# Altium footprint library Driver motor.PcbLib: 4 footprints
Each footprint in its own frame and in the unit in brackets; x right, y up, seen from the top. Pads: shape width x height; smd on the part's side, far side on the other; paste and mask are expansions set on the pad; w line width, h text height; cw(c..) or ccw(c..) is an arc to the next point about the centre after c.
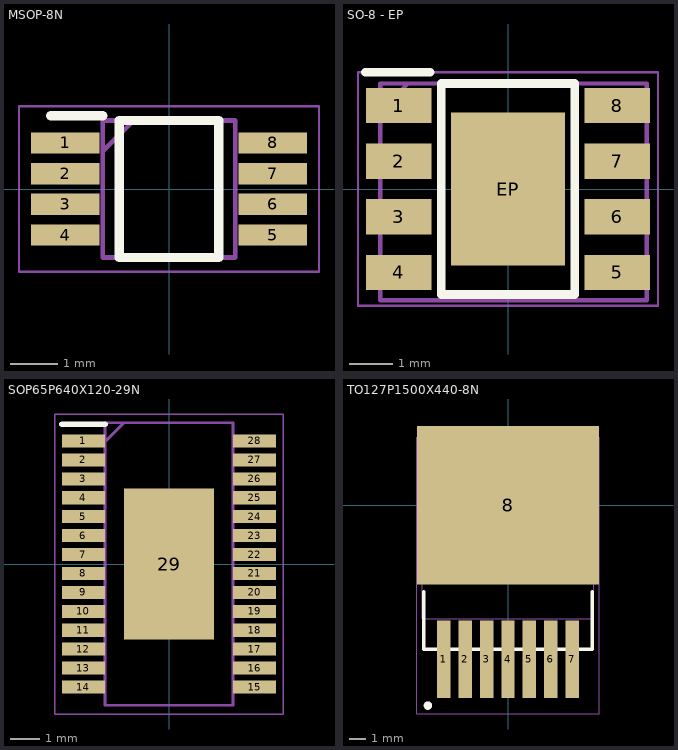
[diagram p0: the footprints below, top view; thin cyan lines are the x and y axes]

## MSOP-8N [mm] "4.90x3.00x1.10"
pads (8):
  rect 1.45x0.45 smd: 1(-2.2,0.975) 2(-2.2,0.325) 3(-2.2,-0.325) 4(-2.2,-0.975) 5(2.2,-0.975) 6(2.2,-0.325) 7(2.2,0.325) 8(2.2,0.975)
Top Overlay:
  lines w0.2: -2.5,1.55 -1.4,1.55 ; -1.05,-1.45 1.05,-1.45 1.05,1.45 -1.05,1.45 -1.05,-1.45
Mechanical 13:
  lines w0.1: -1.4,0.8 -0.75,1.45 ; -1.4,-1.45 1.4,-1.45 1.4,1.45 -1.4,1.45 -1.4,-1.45
Mechanical 15:
  lines w0.05: -3.175,-1.75 3.175,-1.75 3.175,1.75 -3.175,1.75 -3.175,-1.75
3D body "MSOP-8.STEP": height 1.15, standoff 0, extent -2.45,-1.476 2.45,1.524

## SO-8 - EP [mm] "6.00x4.90x1.45"
pads (9):
  rect 1.505x0.802 smd: 1(-2.498,1.905) 2(-2.498,0.635) 3(-2.498,-0.635) 4(-2.498,-1.905) 5(2.498,-1.905) 6(2.498,-0.635) 7(2.498,0.635) 8(2.498,1.905)
  rect 2.613x3.502 smd: EP(0,0)
Top Overlay:
  lines w0.2: -3.259,2.667 -1.778,2.667 ; -1.524,-2.413 1.524,-2.413 1.524,2.413 -1.524,2.413 -1.524,-2.413
Mechanical 13:
  lines w0.1: -2.921,1.778 -2.286,2.413 ; -2.921,-2.54 3.175,-2.54 3.175,2.413 -2.921,2.413 -2.921,-2.54
Mechanical 15:
  lines w0.05: -3.429,-2.667 -3.429,2.667 3.429,2.667 3.429,-2.667 -3.429,-2.667
3D body "SO-8.STEP": height 1.6, standoff 0, extent -2.868,-2.45 3.122,2.45

## SOP65P640X120-29N [mm]
pads (29):
  rect 1.475x0.45 smd: 1(-2.938,4.225) 2(-2.938,3.575) 3(-2.938,2.925) 4(-2.938,2.275) 5(-2.938,1.625) 6(-2.938,0.975) 7(-2.938,0.325) 8(-2.938,-0.325) 9(-2.938,-0.975) 10(-2.938,-1.625) 11(-2.938,-2.275) 12(-2.938,-2.925) 13(-2.938,-3.575) 14(-2.938,-4.225) 15(2.938,-4.225) 16(2.938,-3.575) 17(2.938,-2.925) 18(2.938,-2.275) 19(2.938,-1.625) 20(2.938,-0.975) 21(2.938,-0.325) 22(2.938,0.325) 23(2.938,0.975) 24(2.938,1.625) 25(2.938,2.275) 26(2.938,2.925) 27(2.938,3.575) 28(2.938,4.225)
  rect 3.1x5.18 smd: 29(0,0)
Top Overlay:
  lines w0.2: -3.675,4.8 -2.2,4.8
Mechanical 13:
  lines w0.1: -2.2,4.2 -1.55,4.85 ; -2.2,-4.85 2.2,-4.85 2.2,4.85 -2.2,4.85 -2.2,-4.85
Mechanical 15:
  lines w0.05: -3.925,-5.15 3.925,-5.15 3.925,5.15 -3.925,5.15 -3.925,-5.15
3D body "DRV8825PWP.stp": height 1.2, standoff 0, extent -3.2,-4.85 3.2,4.85

## TO127P1500X440-8N [mm]
pads (8):
  rect 0.8x4.6 smd: 1(-3.81,-9.15) 2(-2.54,-9.15) 3(-1.27,-9.15) 4(0,-9.15) 5(1.27,-9.15) 6(2.54,-9.15) 7(3.81,-9.15)
  rect 10.8x9.4 smd: 8(0,0)
Top Overlay:
  circle w0.25: c-4.75,-11.891 r0.125
  lines w0.2: -5,-5.149 -5,-8.549 5,-8.549 5,-5.149
Mechanical 15:
  circle w0.05: c0,0 r0.35
  lines w0.001: -5.1,-6.741 5.1,-6.741 5.1,2.709 -5.1,2.709 -5.1,-6.741
  lines w0.05: -0.5,0 0.5,0 ; 0,-0.5 0,0.5 ; -5.4,-12.391 5.4,-12.391 5.4,4.009 -5.4,4.009 -5.4,-12.391
3D body "TO263-7-1.STEP": height 4.78, standoff -0.02, extent -4.746,-11.086 5.254,4.584